# EAGLE library part MMA8451Q (library ANIMAlib)
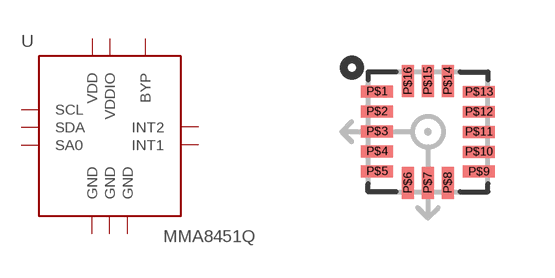
[diagram p20: symbol with the pads of QFN-16_FREE; footprint QFN-16_FREE]

Designator prefix U

## MMA8451Q  [QFN-16_FREE]
P$1  VDDIO  pas
P$2  BYP
P$4  SCL
P$5  GND  pas
P$6  SDA
P$7  SA0
P$9  INT2
P$10  GND  pas
P$11  INT1
P$12  GND  pas
P$14  VDD  pas

## Footprint QFN-16_FREE (pad centres in mm)
smd 0.8 x 0.3: P$1 -1.275,1.01; P$2 -1.275,0.51; P$3 -1.275,0.01; P$4 -1.275,-0.49; P$5 -1.275,-0.99; P$9 1.275,-1; P$10 1.275,-0.5; P$11 1.275,0; P$12 1.275,0.5; P$13 1.275,1
smd 0.3 x 0.8: P$6 -0.5,-1.275; P$7 0,-1.275; P$8 0.5,-1.275; P$14 0.5,1.275; P$15 0,1.275; P$16 -0.5,1.275